# Altium footprint library LM2596S-5.0.PcbLib: 1 footprints
Each footprint in its own frame and in the unit in brackets; x right, y up, seen from the top. Pads: shape width x height; smd on the part's side, far side on the other; paste and mask are expansions set on the pad; w line width, h text height; cw(c..) or ccw(c..) is an arc to the next point about the centre after c.
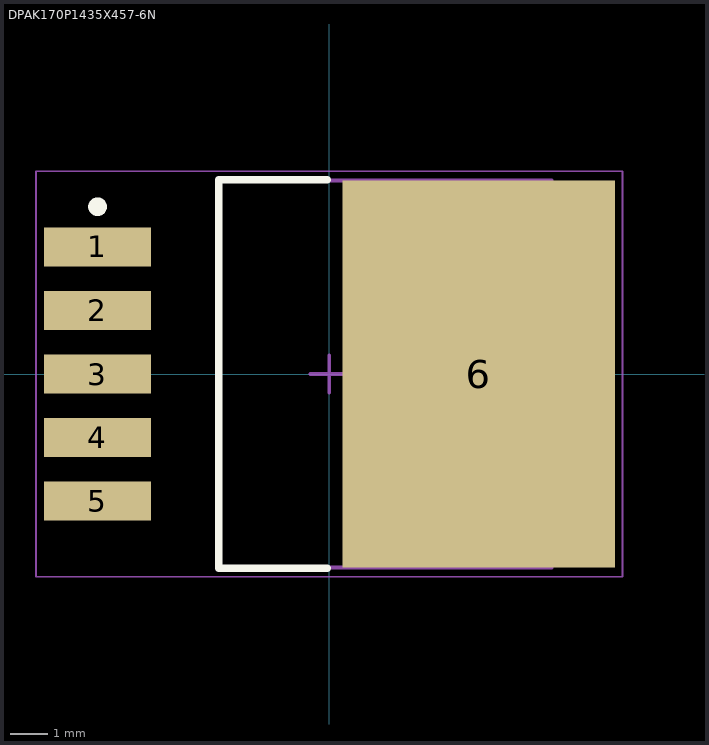
[diagram p0: the footprint, top view; thin cyan lines are the x and y axes]

## DPAK170P1435X457-6N [mm] "D2-PAK, 6-Pads, Body 7,55x8,54mm (max), IPC Medium Density"
height 4.57
pads (6):
  rect 2.85x1.05 smd: 1(-6.2,3.4) 2(-6.2,1.7) 3(-6.2,0) 4(-6.2,-1.7) 5(-6.2,-3.4)
  rect 7.3x10.35 smd: 6(4,0)
Top Overlay:
  circle w0.25: c-6.2,4.475 r0.125
  lines w0.2: -0.05,-5.2 -2.95,-5.2 -2.95,5.2 -0.05,5.2
Mechanical 13:
  lines w0.1: -2.95,-5.175 5.95,-5.175 5.95,5.175 -2.95,5.175 -2.95,-5.175
Mechanical 15:
  lines w0.05: -7.85,-5.425 7.85,-5.425 7.85,5.425 -7.85,5.425 -7.85,-5.425
  lines w0.1: -0.5,0 0.5,0 ; 0,-0.5 0,0.5
3D body: height 4.57, standoff 0, extent -2.95,-5.175 5.95,5.175
3D body: height 0.7, standoff 0, extent -7.229,-3.833 -2.784,-2.944
3D body: height 0.7, standoff 0, extent -7.229,-2.137 -2.784,-1.248
3D body: height 0.7, standoff 0, extent -7.229,-0.441 -2.784,0.448
3D body: height 0.7, standoff 0, extent -7.229,1.255 -2.784,2.144
3D body: height 0.7, standoff 0, extent -7.229,2.95 -2.784,3.839
3D body: height 1.27, standoff 0, extent 5.08,-5.08 6.985,5.08